# Altium footprint library B3U-1000PM.PcbLib: 1 footprints
Each footprint in its own frame and in the unit in brackets; x right, y up, seen from the top. Pads: shape width x height; smd on the part's side, far side on the other; paste and mask are expansions set on the pad; w line width, h text height; cw(c..) or ccw(c..) is an arc to the next point about the centre after c.
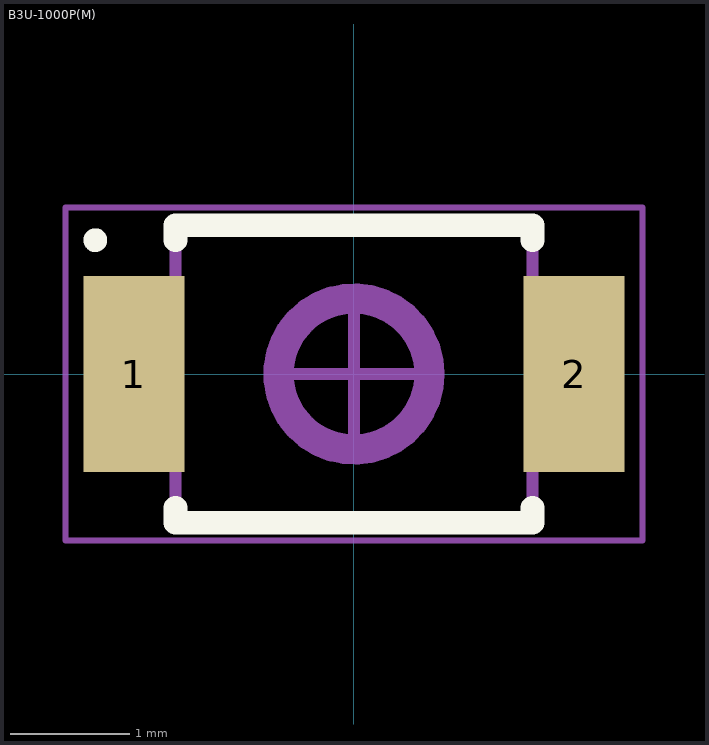
[diagram p0: the footprint, top view; thin cyan lines are the x and y axes]

## B3U-1000P(M) [mm] "SMD microswitch"
height 1.6
pads (2):
  rect 0.85x1.65 smd: 1(-1.85,0) 2(1.85,0)
Top Overlay:
  circle w0.1: c-2.175,1.125 r0.05
  lines w0.2: -1.5,-1.125 -1.5,-1.25 1.5,-1.25 1.5,-1.125 ; -1.5,1.125 -1.5,1.25 1.5,1.25 1.5,1.125
Mechanical 1:
  circle w0.254: c0,0 r0.635
Mechanical 13:
  lines w0.1: -1.5,-1.25 -1.5,1.25 1.5,1.25 1.5,-1.25 -1.5,-1.25
Mechanical 15:
  lines w0.05: -2.425,-1.4 -2.425,1.4 2.425,1.4 2.425,-1.4 -2.425,-1.4
  lines w0.1: -0.5,0 0.5,0 ; 0,-0.5 0,0.5
3D body: height 1.6, standoff 0, extent -1.5,-1.25 1.5,1.25
3D body: height 1.75, standoff 0, extent -0.634,-0.634 0.634,0.634